# Altium footprint library МЦТР.00010528.00.001.PcbLib: 38 footprints (part 1 of 3)
Each footprint in its own frame and in the unit in brackets; x right, y up, seen from the top. Pads: shape width x height; smd on the part's side, far side on the other; paste and mask are expansions set on the pad; w line width, h text height; cw(c..) or ccw(c..) is an arc to the next point about the centre after c.
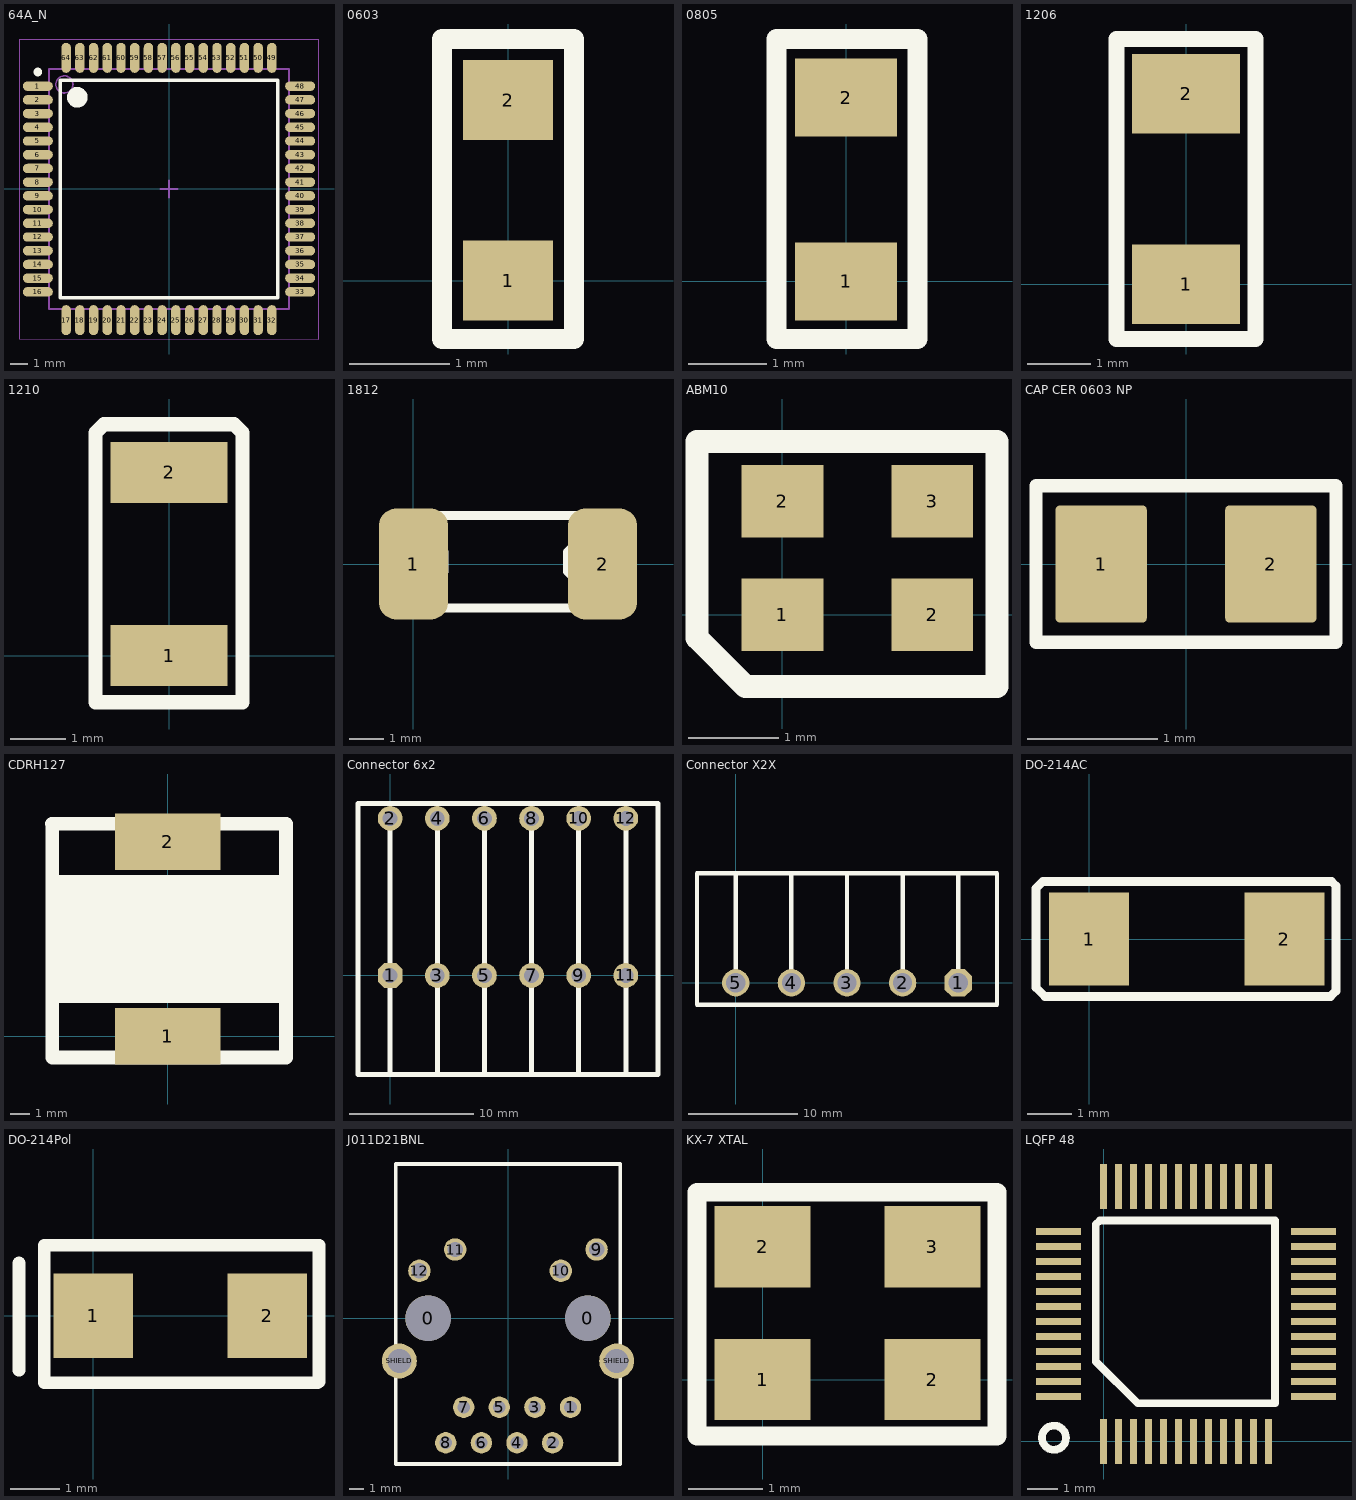
[diagram p0: the footprints below, top view; thin cyan lines are the x and y axes]

## 64A_N [mm] "Thin QFP, 64-Leads, Body 14x14mm, Pitch 0.8mm, IPC Medium Density"
height 1.2
pads (64):
  oval 1.75x0.55 smd: 1(-7.65,6) 2(-7.65,5.2) 3(-7.65,4.4) 4(-7.65,3.6) 5(-7.65,2.8) 6(-7.65,2) 7(-7.65,1.2) 8(-7.65,0.4) 9(-7.65,-0.4) 10(-7.65,-1.2) 11(-7.65,-2) 12(-7.65,-2.8) 13(-7.65,-3.6) 14(-7.65,-4.4) 15(-7.65,-5.2) 16(-7.65,-6) 33(7.65,-6) 34(7.65,-5.2) 35(7.65,-4.4) 36(7.65,-3.6) 37(7.65,-2.8) 38(7.65,-2) 39(7.65,-1.2) 40(7.65,-0.4) 41(7.65,0.4) 42(7.65,1.2) 43(7.65,2) 44(7.65,2.8) 45(7.65,3.6) 46(7.65,4.4) 47(7.65,5.2) 48(7.65,6)
  oval 0.55x1.75 smd: 17(-6,-7.65) 18(-5.2,-7.65) 19(-4.4,-7.65) 20(-3.6,-7.65) 21(-2.8,-7.65) 22(-2,-7.65) 23(-1.2,-7.65) 24(-0.4,-7.65) 25(0.4,-7.65) 26(1.2,-7.65) 27(2,-7.65) 28(2.8,-7.65) 29(3.6,-7.65) 30(4.4,-7.65) 31(5.2,-7.65) 32(6,-7.65) 49(6,7.65) 50(5.2,7.65) 51(4.4,7.65) 52(3.6,7.65) 53(2.8,7.65) 54(2,7.65) 55(1.2,7.65) 56(0.4,7.65) 57(-0.4,7.65) 58(-1.2,7.65) 59(-2,7.65) 60(-2.8,7.65) 61(-3.6,7.65) 62(-4.4,7.65) 63(-5.2,7.65) 64(-6,7.65)
Top Overlay:
  circle w0.6: c-5.35,5.35 r0.3
  circle w0.25: c-7.65,6.825 r0.125
  lines w0.2: -6.35,-6.35 6.35,-6.35 6.35,6.35 -6.35,6.35 -6.35,-6.35
Mechanical 13:
  circle w0.1: c-6.1,6.1 r0.5
  lines w0.1: -7,-7 7,-7 7,7 -7,7 -7,-7
Mechanical 15:
  lines w0.05: -8.75,-8.75 8.75,-8.75 8.75,8.75 -8.75,8.75 -8.75,-8.75
  lines w0.1: -0.5,0 0.5,0 ; 0,-0.5 0,0.5
3D body "ATMEGA128A-AU.STEP": height 1.2, standoff 0, extent -8,-8 8,8

## 0603 [mm]
height 1
pads (2):
  rect 0.9x0.8 smd mask+0.102: 1(0,0) 2(0,1.803)
Top Overlay:
  lines w0.2: -0.66,-0.584 0.66,-0.584 0.66,2.413 -0.66,2.413 -0.66,-0.584
3D body "0603_CAP.STEP": height 0.9, standoff 0, extent -0.4,0.089 0.4,1.689

## 0805 [mm]
height 1
pads (2):
  rect 1.3x1 smd: 1(0,0) 2(0,2.35)
Top Overlay:
  lines w0.254: -0.889,-0.737 0.914,-0.737 0.914,3.099 -0.889,3.099 -0.889,-0.737

## 1206 [mm]
height 2
pads (2):
  rect 1.7x1.25 smd: 1(0,0) 2(0,3)
Top Overlay:
  lines w0.254: -1.092,-0.864 -1.092,3.861 1.092,3.861 1.092,-0.864 -1.092,-0.864
3D body "1206_RES.STEP": height 0.65, standoff 0, extent -0.8,-0.026 0.8,3.074

## 1210 [mm]
height 2
pads (2):
  rect 2.1x1.1 smd: 1(0,0) 2(0,3.3)
Top Overlay:
  lines w0.254: -1.321,-0.838 1.321,-0.838 1.321,4.013 1.168,4.166 -1.168,4.166 -1.321,4.013 -1.321,-0.838

## 1812 [mm]
height 2
pads (2):
  rrect50% 2x3.2 smd: 1(0,0) 2(5.45,0)
Top Overlay:
  lines w0.254: 0.508,-1.27 0.508,-0.603 0.889,-0.222 0.889,0.349 0.508,0.73 0.508,1.397 4.826,1.397 4.826,0.73 4.445,0.349 4.445,-0.222 4.826,-0.603 4.826,-1.27 0.508,-1.27
3D body "MF-MSMF030-2.STEP": height 0.85, standoff 0, extent 0.392,-1.62 4.942,1.62

## ABM10 [mm]
height 1
pads (4):
  rect 0.9x0.8 smd: 1(0,0) 2(0,1.25) 2(1.65,0) 3(1.65,1.25)
Top Overlay:
  lines w0.254: -0.94,-0.254 -0.94,1.905 2.362,1.905 2.362,-0.787 -0.406,-0.787 -0.94,-0.254
3D body "KX7T.STEP": height 0.8, standoff 0, extent -0.838,-0.615 2.362,1.885

## CAP CER 0603 NP [mm] "Capacitor Ceramical SMD 0603 Non-Polar"
height 8
pads (2):
  rrect10% 0.7x0.9 smd mask+0.1: 1(-0.65,0) 2(0.65,0)
Top Overlay:
  lines w0.1: -1.15,-0.6 -1.15,0.6 1.15,0.6 1.15,-0.6 -1.15,-0.6
3D body "CAPC-0603-T0.9-BN.stp": height 0.9, standoff 0, extent -0.85,-0.45 0.85,0.45

## CDRH127 [mm]
height 7
pads (2):
  rect 5.4x2.9 smd: 1(0,0) 2(0,10)
Top Overlay:
  rectangle: -6.02,1.727 6.147,8.28
  lines w0.7: -5.944,10.922 6.063,10.922 6.067,10.918 6.067,-1.082 -5.933,-1.082 -5.933,10.912 -5.944,10.922
3D body "CDRH127LDNP220MC.STEP": height 8, standoff 0, extent -5.873,-1.174 6.127,10.826

## Connector 6x2 [mm] "MCD 1,5/6-G1-3,81 PCB Connector"
height 8
pads (12):
  oct 2x2 hole 1.2: 1(0,0)
  round 2 hole 1.2: 2(0,12.7) 3(3.81,0) 4(3.81,12.7) 5(7.62,0) 6(7.62,12.7) 7(11.43,0) 8(11.43,12.7) 9(15.24,0) 10(15.24,12.7) 11(19.05,0) 12(19.05,12.7)
Top Overlay:
  lines w0.4: 0,-8 0,12.7 ; 3.81,-8 3.81,12.7 ; 7.62,-8 7.62,12.7 ; 11.43,-8 11.43,12.7 ; 15.24,-8 15.24,12.7 ; 19.05,-8 19.05,12.7 ; -2.6,-8 -2.6,13.9 21.65,13.9 21.65,-8 -2.6,-8
3D body "1843114.stp": height 22.7, standoff -3.5, extent -2.6,-8 21.65,13.9

## Connector X2X [mm] "EMSTBA 2,5/ 5-G-5,08 PCB Connector"
height 8
pads (5):
  oct 2.5x2.5 hole 1.75: 1(20.32,0)
  round 2.5 hole 1.75: 2(15.24,0) 3(10.16,0) 4(5.08,0) 5(0,0)
Top Overlay:
  lines w0.4: 0,0 0,10 ; 5.08,0 5.08,10 ; 10.16,0 10.16,10 ; 15.24,0 15.24,10 ; 20.32,0 20.32,10 ; -3.54,-2 23.86,-2 23.86,10 -3.54,10 -3.54,-2
3D body "796638-5--3DModel-STEP-1.STEP": height 8.4, standoff -3.45, extent -3.45,-2 23.77,10

## DO-214AC [mm]
pads (2):
  rect 1.8x2.1 smd: 1(0,0) 2(4.4,0)
Top Overlay:
  lines w0.2: -1.194,-1.092 -0.991,-1.295 5.436,-1.295 5.563,-1.168 5.563,1.194 5.461,1.295 -1.041,1.295 -1.194,1.143 -1.194,-1.092
3D body "DO-214NoPol.STEP": height 2.4, standoff 0, extent -0.446,-1.303 4.764,1.303
3D body: height 0, standoff 0, extent -1.002,-1.152 5.402,1.152

## DO-214Pol [mm]
height 2
pads (2):
  rect 1.6x1.7 smd: 1(0,0) 2(3.5,0)
Top Overlay:
  lines w0.254: -1.499,-1.092 -1.499,1.067 ; 4.521,-1.346 -0.991,-1.346 -0.991,1.422 4.547,1.422 4.547,-1.327
3D body "DO-214.STEP": height 2.62, standoff 0, extent -0.792,-1.28 4.348,1.28

## J011D21BNL [mm] "Ehernet Port J011D21BNL by YAGEO"
pads (16):
  round 3.25 hole 3.25 paste+0 mask+0: 0(-5.7,0) 0(5.7,0)
  round 1.524 hole 0.9: 1(4.46,-6.35) 2(3.18,-8.89) 3(1.92,-6.35) 4(0.64,-8.89) 5(-0.62,-6.35) 6(-1.9,-8.89) 7(-3.16,-6.35) 8(-4.44,-8.89)
  round 1.6 hole 1.1: 9(6.32,4.9) 10(3.77,3.38) 11(-3.77,4.9) 12(-6.32,3.38)
  round 2.5 hole 1.7: SHIELD(-7.75,-3.05) SHIELD(7.75,-3.05)
Top Overlay:
  lines w0.254: -8,-10.4 -8,11 8,11 8,-10.4 -8,-10.4
3D body "J0011D21BNL.STEP": height 15.82, standoff -3.77, extent -10.7,-10.75 10.682,10.833

## KX-7 XTAL [mm]
height 1
pads (4):
  rect 1.3x1.1 smd: 1(0,0) 2(0,1.8) 2(2.3,0) 3(2.3,1.8)
Top Overlay:
  lines w0.254: -0.889,-0.762 -0.889,2.54 3.175,2.54 3.175,-0.762 -0.889,-0.762
3D body "KX7T.STEP": height 0.8, standoff 0, extent -0.457,-0.361 2.743,2.139

## LQFP 48 [mm]
height 1
pads (48):
  rect 0.24x1.5 smd: 1(0,0) 2(0.5,0) 3(1,0) 4(1.5,0) 5(2,0) 6(2.5,0) 7(3,0) 8(3.5,0) 9(4,0) 10(4.5,0) 11(5,0) 12(5.5,0) 25(5.5,8.5) 26(5,8.5) 27(4.5,8.5) 28(4,8.5) 29(3.5,8.5) 30(3,8.5) 31(2.5,8.5) 32(2,8.5) 33(1.5,8.5) 34(1,8.5) 35(0.5,8.5) 36(0,8.5)
  rect 1.5x0.24 smd: 13(7,1.5) 14(7,2) 15(7,2.5) 16(7,3) 17(7,3.5) 18(7,4) 19(7,4.5) 20(7,5) 21(7,5.5) 22(7,6) 23(7,6.5) 24(7,7) 37(-1.5,7) 38(-1.5,6.5) 39(-1.5,6) 40(-1.5,5.5) 41(-1.5,5) 42(-1.5,4.5) 43(-1.5,4) 44(-1.5,3.5) 45(-1.5,3) 46(-1.5,2.5) 47(-1.5,2) 48(-1.5,1.5)
Top Overlay:
  circle w0.254: c-1.651,0.127 r0.402
  lines w0.254: -0.254,2.667 1.143,1.27 5.715,1.27 5.715,7.366 -0.127,7.366 -0.254,7.239 -0.254,2.667
3D body "W5500--3DModel-STEP-56544.STEP": height 1.6, standoff 0, extent -1.706,-0.309 7.294,8.691